# Altium footprint library passiveCompsLib.PcbLib: 32 footprints (part 1 of 2)
Each footprint in its own frame and in the unit in brackets; x right, y up, seen from the top. Pads: shape width x height; smd on the part's side, far side on the other; paste and mask are expansions set on the pad; w line width, h text height; cw(c..) or ccw(c..) is an arc to the next point about the centre after c.
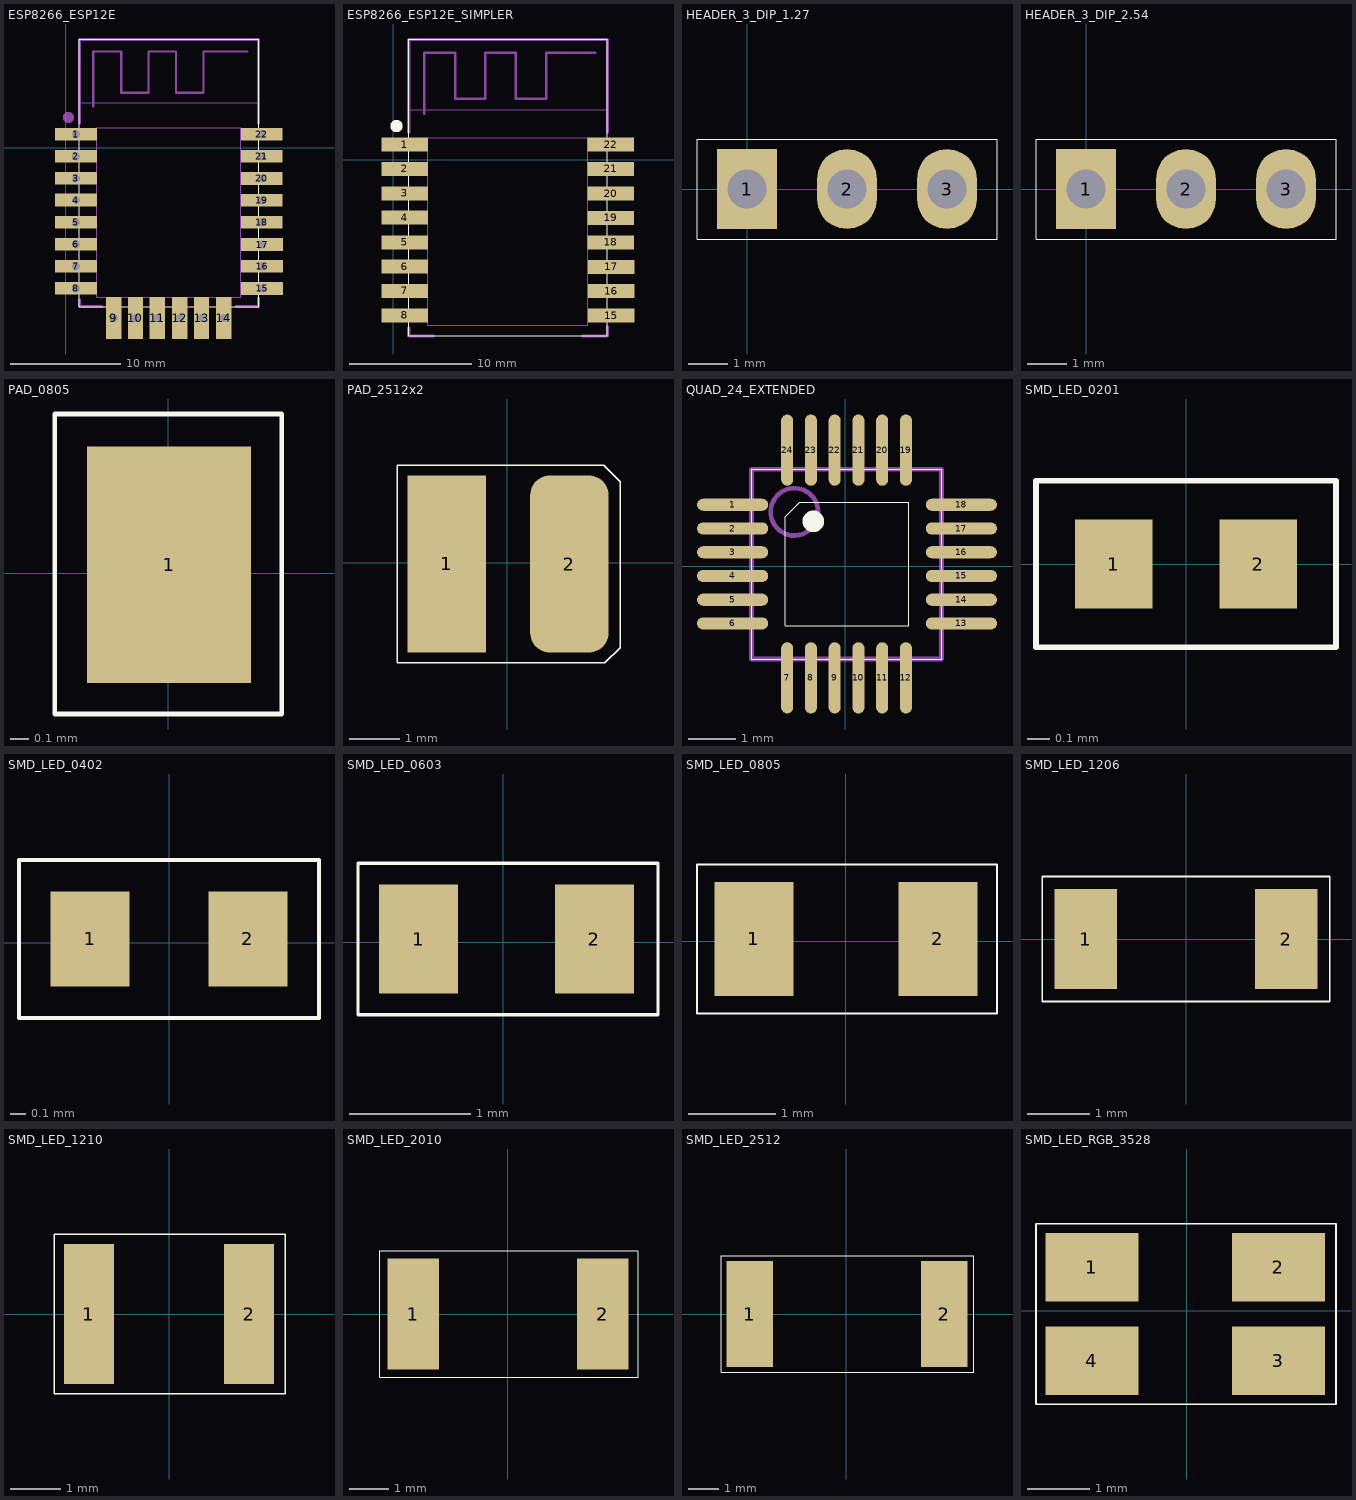
[diagram p0: the footprints below, top view; thin cyan lines are the x and y axes]

## ESP8266_ESP12E [mil]
pads (22):
  rect 150x45 hole 30: 1(36.47,48.38) 2(36.47,-29.62) 3(36.47,-108.62) 4(36.47,-186.62) 5(36.47,-266.62) 6(36.47,-344.62) 7(36.47,-422.62) 8(36.47,-501.62) 15(701.35,-502.63) 16(701.35,-423.63) 17(701.35,-345.63) 18(700.35,-266.63) 19(700.35,-187.63) 20(700.35,-109.63) 21(700.35,-29.63) 22(700.35,48.37)
  rect 55x150 hole 30: 9(171.08,-608.23) 10(249.08,-608.23) 11(327.08,-608.23) 12(407.08,-608.23) 13(485.08,-608.23) 14(565.08,-608.23)
Top Overlay:
  lines w1: 48.5,-567.62 689.08,-567.62 689.08,388.78 48.5,388.78 48.5,-567.62
Mechanical 1:
  circle w20: c9.84,108.27 r9.84
  lines w1: 111.08,-533.32 111.38,-533.62 626.08,-533.62 626.08,-525.12 626.08,69.88 625.08,70.88 111.08,70.88 111.08,-533.32
  lines w7.87: 98.43,147.64 98.43,344.49 198.58,344.49 198.58,196.85 295.28,196.85 295.28,344.49 393.7,344.49 393.7,206.69 393.7,196.85 482.28,196.85 ; 649.61,344.49 492.13,344.49 492.13,196.85 482.28,196.85 ; 482.28,196.85 485.08,196.85 482.28,196.85
  lines w10: 49.08,-542.62 49.08,-567.62 129.08,-567.62 ; 49.08,87.38 49.08,387.38 689.08,387.38 689.08,87.38 ; 609.08,-567.62 689.08,-567.62 689.08,-537.62
Mechanical 13:
  lines w2: 51.12,160.34 691.12,160.34
  text "CUTOUT POLYGON" at 61.12,342.97 h10
  text "ANTENNA AREA" at 61.12,362.97 h10
3D body "User Library-ESP_12_E.STEP": height 85.7, standoff -1.17, extent 53.08,-561.06 683,383.82

## ESP8266_ESP12E_SIMPLER [mil]
pads (16):
  rect 150x45 smd: 1(36.47,48.38) 2(36.47,-29.62) 3(36.47,-108.62) 4(36.47,-186.62) 5(36.47,-266.62) 6(36.47,-344.62) 7(36.47,-422.62) 8(36.47,-501.62) 15(701.35,-502.63) 16(701.35,-423.63) 17(701.35,-345.63) 18(700.35,-266.63) 19(700.35,-187.63) 20(700.35,-109.63) 21(700.35,-29.63) 22(700.35,48.37)
Top Overlay:
  circle w20: c9.84,108.27 r9.84
  lines w1: 48.5,-567.62 689.08,-567.62 689.08,388.78 48.5,388.78 48.5,-567.62
Mechanical 1:
  lines w1: 111.08,-533.32 111.08,70.88 625.08,70.88 626.08,69.88 626.08,-525.12 626.08,-533.62 111.38,-533.62 111.08,-533.32
  lines w7.87: 98.43,147.64 98.43,344.49 198.58,344.49 198.58,196.85 295.28,196.85 295.28,344.49 393.7,344.49 393.7,206.69 393.7,196.85 482.28,196.85 ; 649.61,344.49 492.13,344.49 492.13,196.85 482.28,196.85 ; 482.28,196.85 485.08,196.85 482.28,196.85
  lines w10: 49.08,-542.62 49.08,-567.62 129.08,-567.62 ; 49.08,87.38 49.08,387.38 689.08,387.38 689.08,87.38 ; 609.08,-567.62 689.08,-567.62 689.08,-537.62
Mechanical 13:
  lines w2: 51.12,160.34 691.12,160.34
  text "CUTOUT POLYGON" at 61.12,342.97 h10
  text "ANTENNA AREA" at 61.12,362.97 h10
3D body "User Library-ESP_12_E.STEP": height 85.7, standoff -1.17, extent 53.08,-561.06 683,383.82

## HEADER_3_DIP_1.27 [mil]
pads (3):
  rect 60x80 hole 39.37: 1(0,0)
  oval 60x80 hole 39.37: 2(100,0) 3(200,0)
Top Overlay:
  lines w1: -50,-50 250,-50 250,50 -50,50 -50,0 -50,-50

## HEADER_3_DIP_2.54 [mil]
pads (3):
  rect 60x80 hole 39.37: 1(0,0)
  oval 60x80 hole 39.37: 2(100,0) 3(200,0)
Top Overlay:
  lines w1: -50,-50 -50,0 -50,50 250,50 250,-50 -50,-50

## PAD_0805 [mm]
pads (1):
  rect 0.9x1.3 smd: 1(0.004,0.046)
Top Overlay:
  lines w0.025: -0.625,-0.775 0.625,-0.775 0.625,0.875 -0.625,0.875 -0.625,-0.775

## PAD_2512x2 [mm]
pads (2):
  rect 1.55x3.5 smd: 1(-1.2,-0.025)
  rrect50% 1.55x3.5 smd: 2(1.225,-0.025)
Top Overlay:
  lines w0.025: -2.175,-1.975 1.925,-1.975 2.225,-1.675 2.225,1.6 1.9,1.925 -2.175,1.925 -2.175,1.159 -2.175,-1.975

## QUAD_24_EXTENDED [mm]
pads (24):
  oval 1.5x0.254 smd: 1(-2.375,1.3) 2(-2.375,0.8) 3(-2.375,0.3) 4(-2.375,-0.2) 5(-2.375,-0.7) 6(-2.375,-1.2) 13(2.443,-1.2) 14(2.443,-0.7) 15(2.443,-0.2) 16(2.443,0.3) 17(2.443,0.8) 18(2.443,1.3)
  oval 0.254x1.5 smd: 7(-1.225,-2.345) 8(-0.725,-2.345) 9(-0.225,-2.345) 10(0.275,-2.345) 11(0.775,-2.345) 12(1.275,-2.345) 19(1.275,2.45) 20(0.775,2.45) 21(0.275,2.45) 22(-0.225,2.45) 23(-0.725,2.45) 24(-1.225,2.45)
Top Overlay:
  circle w0.254: c-0.675,0.95 r0.1
  lines w0.025: -0.966,1.35 1.334,1.35 1.334,-1.25 -1.266,-1.25 -1.266,1.05 -0.966,1.35 ; -0.966,1.35 -0.966,1.35 ; -1.975,-1.95 1.999,-1.95 2.025,-1.95 2.025,2.05 -1.975,2.05 -1.975,-1.95
Mechanical 13:
  circle w0.1: c-1.075,1.15 r0.5
  lines w0.1: -1.975,-1.95 2.025,-1.95 ; -1.975,-1.95 -1.975,2.05 ; -1.975,-1.95 2.025,-1.95 ; -1.975,-1.95 -1.975,2.05 ; -1.975,2.05 2.025,2.05 ; -1.975,2.05 2.025,2.05 ; 2.025,-1.95 2.025,2.05 ; 2.025,-1.95 2.025,2.05
3D body: height 0.8, standoff 0, extent -1.975,-1.95 2.025,2.05

## SMD_LED_0201 [mm]
pads (2):
  rect 0.35x0.4 smd: 1(-0.325,0) 2(0.325,0)
Top Overlay:
  lines w0.025: -0.675,-0.375 0.675,-0.375 0.675,0.375 -0.675,0.375 -0.675,-0.375

## SMD_LED_0402 [mm]
pads (2):
  rect 0.5x0.6 smd: 1(-0.5,0.025) 2(0.5,0.025)
Top Overlay:
  lines w0.025: -0.95,-0.475 0.95,-0.475 0.95,0.525 -0.95,0.525 -0.95,-0.475

## SMD_LED_0603 [mm]
pads (2):
  rect 0.65x0.9 smd: 1(-0.7,0.025) 2(0.75,0.025)
Top Overlay:
  lines w0.025: -1.2,-0.6 1.275,-0.6 1.275,0.65 -1.2,0.65 -1.2,-0.6

## SMD_LED_0805 [mm]
pads (2):
  rect 0.9x1.3 smd: 1(-1.05,0.025) 2(1.05,0.025)
Top Overlay:
  lines w0.025: -1.7,-0.825 -1.7,0.875 1.725,0.875 1.725,-0.825 -1.7,-0.825

## SMD_LED_1206 [mm]
pads (2):
  rect 1x1.6 smd: 1(-1.6,0) 2(1.6,0)
Top Overlay:
  lines w0.025: -2.3,-1 2.3,-1 2.3,1 -2.3,1 -2.3,-1

## SMD_LED_1210 [mm]
pads (2):
  rect 1x2.8 smd: 1(-1.6,0) 2(1.6,0)
Top Overlay:
  lines w0.025: -2.3,-1.6 -2.3,1.6 2.325,1.6 2.325,-1.6 -2.3,-1.6

## SMD_LED_2010 [mm]
pads (2):
  rect 1.3x2.8 smd: 1(-2.4,0) 2(2.4,0)
Top Overlay:
  lines w0.025: -3.25,1.594 -3.244,1.6 3.3,1.6 3.3,-1.6 -3.25,-1.6 -3.25,1.6

## SMD_LED_2512 [mm]
pads (2):
  rect 1.55x3.5 smd: 1(-3.2,0) 2(3.25,0)
Top Overlay:
  lines w0.025: -4.15,-1.925 4.225,-1.925 4.225,1.925 -4.15,1.925 -4.15,-1.925

## SMD_LED_RGB_3528 [mm]
pads (4):
  rect 1.5x1.1 smd: 1(-1.525,0.7) 2(1.475,0.7) 3(1.475,-0.8) 4(-1.525,-0.8)
Top Overlay:
  lines w0.025: -2.425,-1.5 -2.425,1.4 2.4,1.4 2.4,-1.5 -2.425,-1.5